# Altium schematic symbol library LT8652S.SchLib: 1 symbol
Pins are listed as number, name and electrical type; pins without a type are passive.

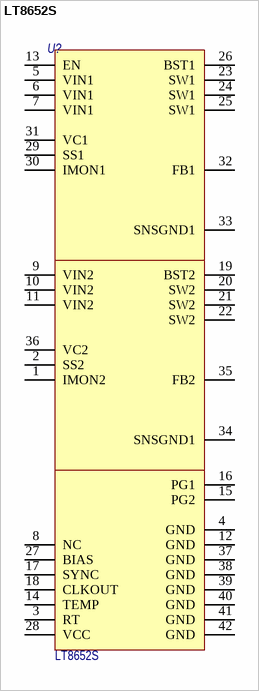
[diagram p0: symbol LT8652S]

## LT8652S
designator U?
Dual Channel 8.5A, 18V, / Synchronous Step-Down Silent Switcher; Потребление: 5.5; Назначение: Dual Channel 8.5A, 18V, Synchronous Step-Down; Наименование: LT8652S
footprint LQFN36-4x7x0.94 (LQFN, 36-Leads, Body 4,00x7,00mm, Pitch 0,50mm, Thermal Pad, IPC Medium Density)
pins: 1 IMON2, 2 SS2, 3 RT, 4 GND, 5 VIN1, 6 VIN1, 7 VIN1, 8 NC, 9 VIN2, 10 VIN2, 11 VIN2, 12 GND, 13 EN, 14 TEMP, 15 PG2, 16 PG1, 17 SYNC, 18 CLKOUT, 19 BST2, 20 SW2, 21 SW2, 22 SW2, 23 SW1, 24 SW1, 25 SW1, 26 BST1, 27 BIAS, 28 VCC, 29 SS1, 30 IMON1, 31 VC1, 32 FB1, 33 SNSGND1, 34 SNSGND1, 35 FB2, 36 VC2, 37 GND, 38 GND, 39 GND, 40 GND, 41 GND, 42 GND